# EAGLE library part AD7124-4 (library bschulz)
AD7124-4 - Low Noise, Low Power Sigma Delta (ΣΔ) ADC Characteristics: VCC: 2.7~3.6V (±1.8V) Resolution: 24 bits (12 bits for ADS1015) Number of Inputs: 4 Sample Rate (max): 19.2k Samples Per Second Operating Temperature: -40°C to 125°C Digikey: 505-AD7124-4BCPZ-RL7CT-ND <https://www.digikey.com/en/products/detail/analog-devices-inc/AD7124-4BCPZ-RL7/5357076>
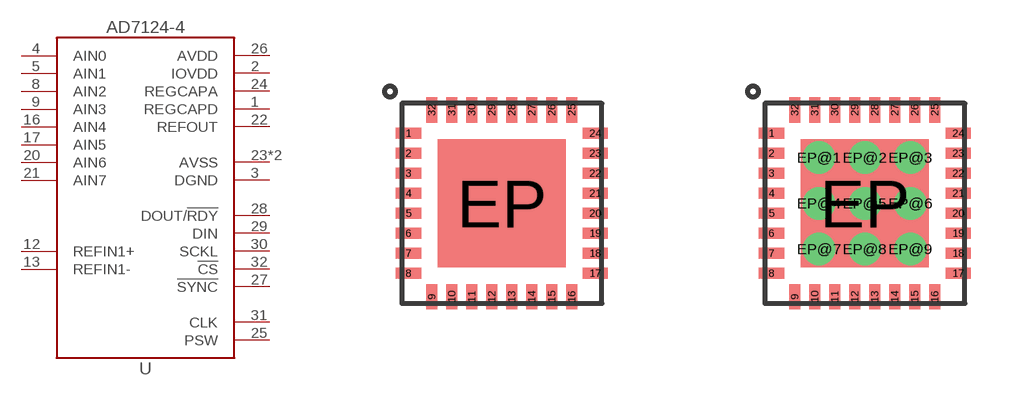
[diagram p180: symbol with the pads of QFN32; footprints QFN32, QFN32_POWER]

Designator prefix U

## AD7124-4 (DIGIKEY: 505-AD7124-4BCPZ-RL7CT-ND; MF: Analog Devices; MPN: AD7124-4BCPZ-RL7)  [QFN32]
1  REGCAPD  out
2  IOVDD  pwr
3  DGND  pwr
4  AIN0
5  AIN1
8  AIN2
9  AIN3
12  REFIN1+  in
13  REFIN1-  in
16  AIN4
17  AIN5
20  AIN6
21  AIN7
22  REFOUT  out
23  AVSS  pwr
24  REGCAPA  out
25  PSW  in
26  AVDD  pwr
27  !SYNC  in
28  DOUT/!RDY  out
29  DIN  in
30  SCKL  in
31  CLK  out
32  !CS  in
EP  AVSS  pwr

## AD7124-4PWR (DIGIKEY: 505-AD7124-4BCPZ-RL7CT-ND; MF: Analog Devices; MPN: AD7124-4BCPZ-RL7)  [QFN32_POWER]
1  REGCAPD  out
2  IOVDD  pwr
3  DGND  pwr
4  AIN0
5  AIN1
8  AIN2
9  AIN3
12  REFIN1+  in
13  REFIN1-  in
16  AIN4
17  AIN5
20  AIN6
21  AIN7
22  REFOUT  out
23  AVSS  pwr
24  REGCAPA  out
25  PSW  in
26  AVDD  pwr
27  !SYNC  in
28  DOUT/!RDY  out
29  DIN  in
30  SCKL  in
31  CLK  out
32  !CS  in
EP  AVSS  pwr
EP@1  AVSS  pwr
EP@2  AVSS  pwr
EP@3  AVSS  pwr
EP@4  AVSS  pwr
EP@5  AVSS  pwr
EP@6  AVSS  pwr
EP@7  AVSS  pwr
EP@8  AVSS  pwr
EP@9  AVSS  pwr

## Footprint QFN32 (pad centres in mm)
smd 0.63 x 0.28: 1 -2.335,1.75; 2 -2.335,1.25; 3 -2.335,0.75; 4 -2.335,0.25; 5 -2.335,-0.25; 6 -2.335,-0.75; 7 -2.335,-1.25; 8 -2.335,-1.75; 17 2.335,-1.75; 18 2.335,-1.25; 19 2.335,-0.75; 20 2.335,-0.25; 21 2.335,0.25; 22 2.335,0.75; 23 2.335,1.25; 24 2.335,1.75
smd 0.28 x 0.63: 9 -1.75,-2.335; 10 -1.25,-2.335; 11 -0.75,-2.335; 12 -0.25,-2.335; 13 0.25,-2.335; 14 0.75,-2.335; 15 1.25,-2.335; 16 1.75,-2.335; 25 1.75,2.335; 26 1.25,2.335; 27 0.75,2.335; 28 0.25,2.335; 29 -0.25,2.335; 30 -0.75,2.335; 31 -1.25,2.335; 32 -1.75,2.335
smd 3.2 x 3.2: EP 0,0

## Footprint QFN32_POWER (pad centres in mm)
smd 0.63 x 0.28: 1 -2.335,1.75; 2 -2.335,1.25; 3 -2.335,0.75; 4 -2.335,0.25; 5 -2.335,-0.25; 6 -2.335,-0.75; 7 -2.335,-1.25; 8 -2.335,-1.75; 17 2.335,-1.75; 18 2.335,-1.25; 19 2.335,-0.75; 20 2.335,-0.25; 21 2.335,0.25; 22 2.335,0.75; 23 2.335,1.25; 24 2.335,1.75
smd 0.28 x 0.63: 9 -1.75,-2.335; 10 -1.25,-2.335; 11 -0.75,-2.335; 12 -0.25,-2.335; 13 0.25,-2.335; 14 0.75,-2.335; 15 1.25,-2.335; 16 1.75,-2.335; 25 1.75,2.335; 26 1.25,2.335; 27 0.75,2.335; 28 0.25,2.335; 29 -0.25,2.335; 30 -0.75,2.335; 31 -1.25,2.335; 32 -1.75,2.335
smd 3.2 x 3.2: EP 0,0
drill 0.3: EP@1 -1.143,1.143; EP@2 0,1.143; EP@3 1.143,1.143; EP@4 -1.143,0; EP@5 0,0; EP@6 1.143,0; EP@7 -1.143,-1.143; EP@8 0,-1.143; EP@9 1.143,-1.143